# Altium footprint library Fuse_Resettable_PPTC.PcbLib: 1 footprints
Each footprint in its own frame and in the unit in brackets; x right, y up, seen from the top. Pads: shape width x height; smd on the part's side, far side on the other; paste and mask are expansions set on the pad; w line width, h text height; cw(c..) or ccw(c..) is an arc to the next point about the centre after c.
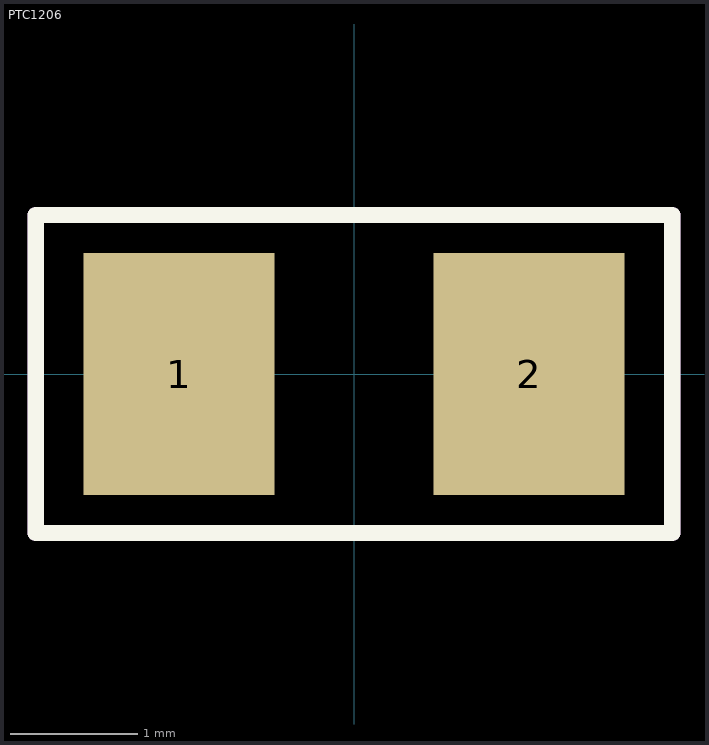
[diagram p0: the footprint, top view; thin cyan lines are the x and y axes]

## PTC1206 [mm]
pads (2):
  rect 1.5x1.9 smd: 1(-1.375,0) 2(1.375,0)
Top Overlay:
  lines w0.127: -2.5,-1.25 -2.5,1.25 2.5,1.25 2.5,-1.25 -2.5,-1.25
Mechanical 13:
  lines w0.127: -2.5,-1.25 2.5,-1.25 2.5,1.25 -2.5,1.25 -2.5,-1.25
Mechanical 15:
  lines w0.05: -2.5,-1.25 -2.5,1.25 2.5,1.25 2.5,-1.25 -2.5,-1.25
3D body "0ZCJ0020FF2E.step": height 0.92, standoff 0.07, extent -1.75,-0.825 1.5,0.825